# EAGLE library part 418121270809 (library Wurth_Elektronik_Electromechanic_Switchs_rev15b)
WS-IC-2.54 mm small compact SMD Dip Switch with raised actuator,18 pins,9 poles
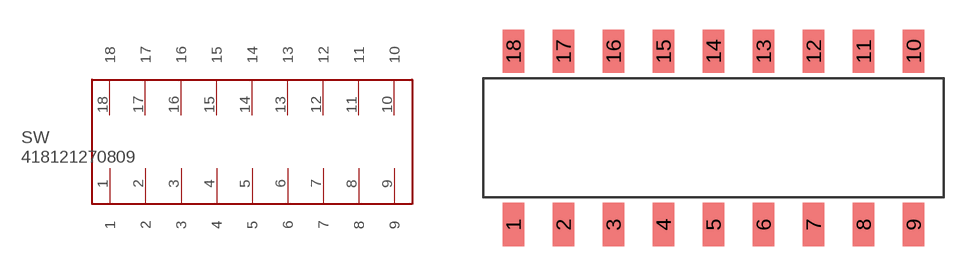
[diagram p45: symbol with the pads of 418121270809; footprint 418121270809]

Designator prefix SW

## 418121270809  [418121270809]
1  1
2  2
3  3
4  4
5  5
6  6
7  7
8  8
9  9
10  10
11  11
12  12
13  13
14  14
15  15
16  16
17  17
18  18

## Footprint 418121270809 (pad centres in mm)
WS-IC-2.54 mm small compact SMD Dip Switch with raised actuator,18 pins,9 poles
smd 1.1 x 2.2: 1 0,-4.4; 2 2.54,-4.4; 3 5.08,-4.4; 4 7.62,-4.4; 5 10.16,-4.4; 6 12.7,-4.4; 7 15.24,-4.4; 8 17.78,-4.4; 9 20.32,-4.4; 10 20.32,4.4; 11 17.78,4.4; 12 15.24,4.4; 13 12.7,4.4; 14 10.16,4.4; 15 7.62,4.4; 16 5.08,4.4; 17 2.54,4.4; 18 0,4.4